# Altium footprint library MiniMELF.PcbLib: 1 footprints
Each footprint in its own frame and in the unit in brackets; x right, y up, seen from the top. Pads: shape width x height; smd on the part's side, far side on the other; paste and mask are expansions set on the pad; w line width, h text height; cw(c..) or ccw(c..) is an arc to the next point about the centre after c.
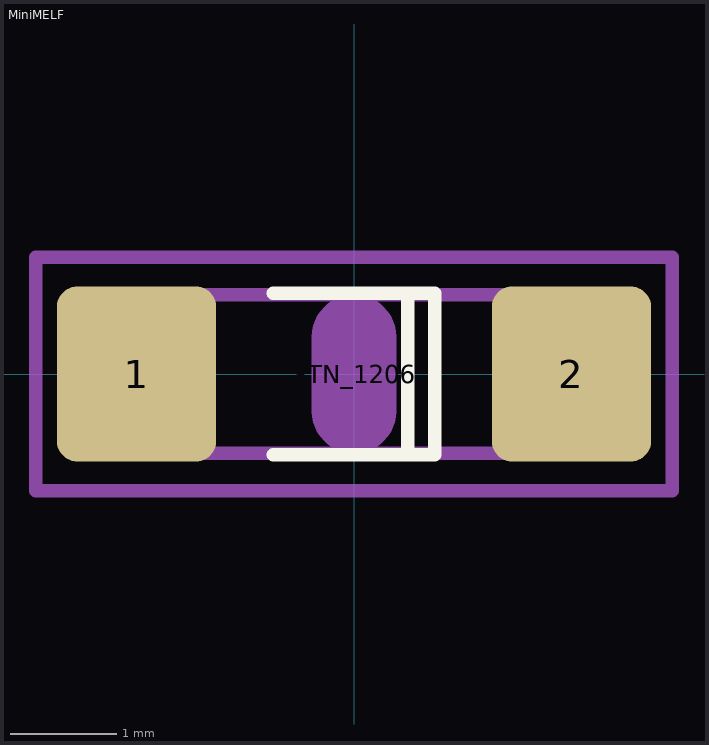
[diagram p0: the footprint, top view; thin cyan lines are the x and y axes]

## MiniMELF [mm]
pads (3):
  rrect25% 1.5x1.65 smd: 1(-2.05,0) 2(2.05,0)
  oval 0.8x1.5 on Mech2 mask+0: STN_1206(0,0)
Top Overlay:
  lines w0.127: -0.762,-0.762 0.762,-0.762 0.762,0.762 -0.762,0.762 ; 0.508,-0.762 0.508,0.762
Mechanical 13:
  lines w0.127: -1.8,-0.747 1.8,-0.747 1.8,0.747 -1.8,0.747 -1.8,-0.747
Mechanical 15:
  lines w0.127: -3,-1.1 3,-1.1 3,1.1 -3,1.1 -3,-1.1
3D body "User Library-SOD-80.STEP": height 1.6, standoff 0, extent -1.82,-0.8 1.88,0.8